# Altium schematic symbol library Allegro.SchLib: 2 symbols
Pins are listed as number, name and electrical type; pins without a type are passive.

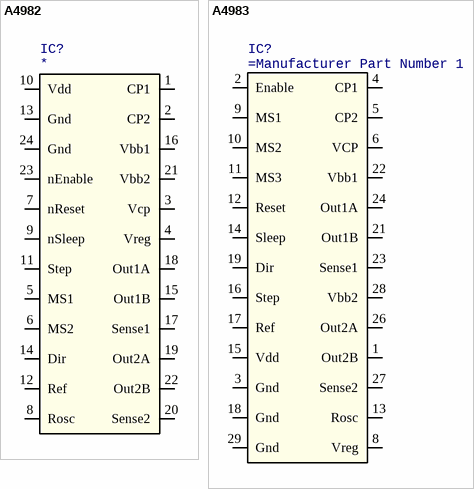
[diagram p0: symbols A4982 to A4983]

## A4982
designator IC?
Microstep Motor Driver; Value: *
footprint TSOP65P640X120_HS-25N (TSOP, 24-Leads, Body 7.80x4.40mm, Pitch 0.65mm, Thermal Pad 4.32x3.00mm, IPC Medium Density)
pins: 1 CP1, 2 CP2, 3 Vcp, 4 Vreg, 5 MS1, 6 MS2, 7 nReset, 8 Rosc, 9 nSleep, 10 Vdd (power), 11 Step, 12 Ref, 13 Gnd (power), 14 Dir, 15 Out1B, 16 Vbb1, 17 Sense1, 18 Out1A, 19 Out2A, 20 Sense2, 21 Vbb2, 22 Out2B, 23 nEnable, 24 Gnd (power)

## A4983
designator IC?
Microstep Moter Driver
footprint QFN50P500X500X100_HS-29N (QFN, 28-Leads, Body 5.00x5.00mm, Pitch 0.50mm, Thermal Pad 3.15x3.15mm, IPC Medium Density)
pins: 1 Out2B, 2 Enable, 3 Gnd (power), 4 CP1, 5 CP2, 6 VCP, 8 Vreg, 9 MS1, 10 MS2, 11 MS3, 12 Reset, 13 Rosc, 14 Sleep, 15 Vdd (power), 16 Step, 17 Ref, 18 Gnd (power), 19 Dir, 21 Out1B, 22 Vbb1 (power), 23 Sense1, 24 Out1A, 26 Out2A, 27 Sense2, 28 Vbb2 (power), 29 Gnd (power)